# Altium integrated library CD74HC4067.IntLib: 1 symbol
Pins are listed as number, name and electrical type; pins without a type are passive.

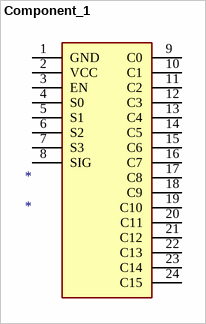
[diagram p0: symbol Component_1]

## Component_1
designator *
footprint CD74HC4067
pins: 1 GND, 2 VCC, 3 EN, 4 S0, 5 S1, 6 S2, 7 S3, 8 SIG, 9 C0, 10 C1, 11 C2, 12 C3, 13 C4, 14 C5, 15 C6, 16 C7, 17 C8, 18 C9, 19 C10, 20 C11, 21 C12, 22 C13, 23 C14, 24 C15